# Altium footprint library SB_open.PcbLib: 1 footprints
Each footprint in its own frame and in the unit in brackets; x right, y up, seen from the top. Pads: shape width x height; smd on the part's side, far side on the other; paste and mask are expansions set on the pad; w line width, h text height; cw(c..) or ccw(c..) is an arc to the next point about the centre after c.
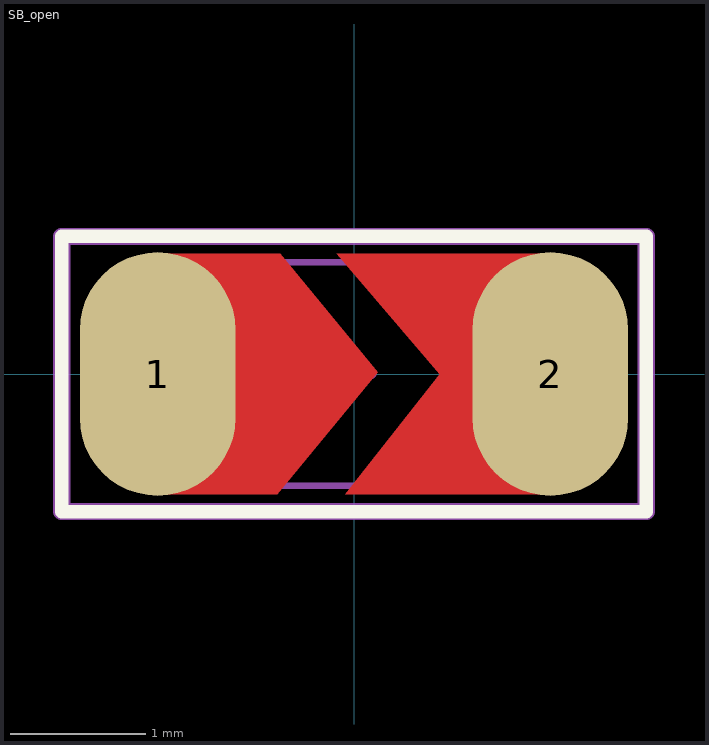
[diagram p0: the footprint, top view; thin cyan lines are the x and y axes]

## SB_open [mm] "SB_open"
pads (2):
  oval 1.15x1.8 smd paste-1 mask+0.05: 1(-1.45,0) 2(1.45,0)
Top Layer:
  region: -0.127,0.889 0.635,0 -0.064,-0.889 1.45,-0.889 1.45,0.889
  region: -1.45,0.889 -0.545,0.889 0.175,0.014 -0.568,-0.889 -1.45,-0.889
Top Overlay:
  lines w0.1: -2.159,-1.016 2.159,-1.016 2.159,1.016 -2.159,1.016 -2.159,-1.016
Top Assembly:
  lines w0.05: -1.625,-0.825 -1.625,0.825 1.625,0.825 1.625,-0.825 -1.625,-0.825
  text "'.Designator'" at -1.016,-0.127 h0.3
Top Courtyard:
  lines w0.076: -0.127,0 0.127,0 ; 0,-0.127 0,0.127
  lines w0.127: -2.159,-1.016 -2.159,1.016 2.159,1.016 2.159,-1.016 -2.159,-1.016